# Altium footprint library PIF_LCD2004_I2C.PcbLib: 1 footprints
Each footprint in its own frame and in the unit in brackets; x right, y up, seen from the top. Pads: shape width x height; smd on the part's side, far side on the other; paste and mask are expansions set on the pad; w line width, h text height; cw(c..) or ccw(c..) is an arc to the next point about the centre after c.
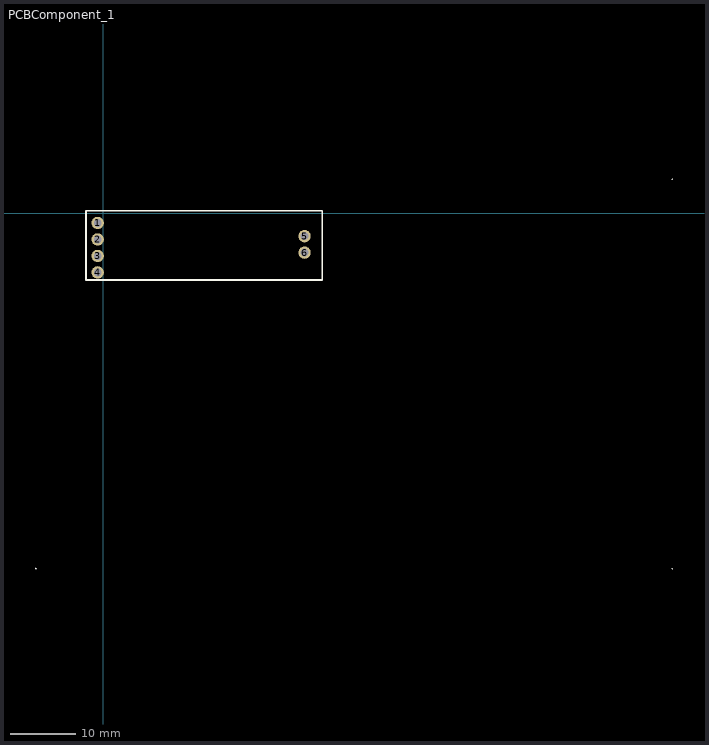
[diagram p0: the footprint, top view; thin cyan lines are the x and y axes]

## PCBComponent_1 [mm]
pads (6):
  round 1.9 hole 1.2: 1(-0.889,-1.524) 2(-0.889,-4.064) 3(-0.889,-6.604) 4(-0.889,-9.144) 5(30.988,-3.556) 6(30.988,-6.096)
Top Overlay:
  lines w0.254: -10.414,-54.76 -10.382,-54.793 ; -2.685,0.367 -2.685,-10.262 -2.727,-10.305 33.694,-10.305 33.715,-10.326 33.715,0.321 33.655,0.381 -2.667,0.381 ; 87.612,5.207 87.618,5.202 ; 87.615,-54.793 87.618,-54.79
3D body "Lcd i2c.STEP": height 13.54, standoff -5.41, extent -10.383,-54.793 87.617,5.207